# Altium footprint library Diodes.PcbLib: 1 footprints
Each footprint in its own frame and in the unit in brackets; x right, y up, seen from the top. Pads: shape width x height; smd on the part's side, far side on the other; paste and mask are expansions set on the pad; w line width, h text height; cw(c..) or ccw(c..) is an arc to the next point about the centre after c.
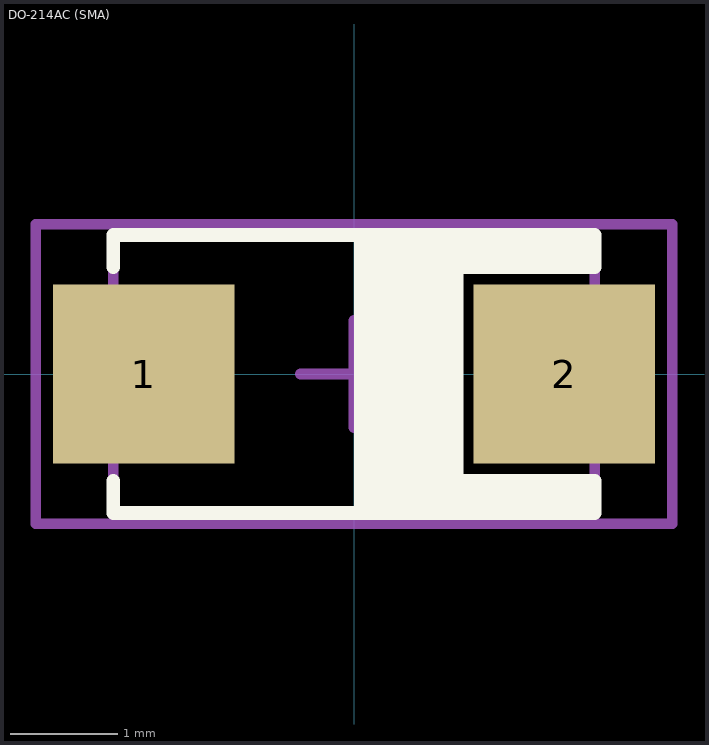
[diagram p0: the footprint, top view; thin cyan lines are the x and y axes]

## DO-214AC (SMA) [mm] "DO-214AC(SMA) Package"
height 2.438
pads (2):
  rect 1.7x1.67 smd: 1(-1.965,0) 2(1.965,0)
Top Overlay:
  region: 0,1.3 0,-1.3 1.025,-1.3 1.025,1.3
  region: 2.25,1.3 0,1.3 0,0.936 2.25,0.936
  rectangle: 0,-1.3 2.25,-0.936
  lines w0.127: -2.25,-1 -2.25,-1.3 2.25,-1.3 2.25,-1 ; -2.25,1 -2.25,1.3 2.25,1.3 2.25,1
Mechanical 13:
  lines w0.1: -2.25,-1.3 2.25,-1.3 2.25,1.3 -2.25,1.3 -2.25,-1.3
Mechanical 15:
  lines w0.1: -0.5,0 0.5,0 ; 0,-0.5 0,0.5 ; -2.975,-1.4 2.975,-1.4 2.975,1.4 -2.975,1.4 -2.975,-1.4
3D body "User Library-DO-214AC SMA.step": height 2.35, standoff -0.05, extent -2.6,-1.3 2.6,1.3